# Altium footprint library IVV_IC.PcbLib: 16 footprints
Each footprint in its own frame and in the unit in brackets; x right, y up, seen from the top. Pads: shape width x height; smd on the part's side, far side on the other; paste and mask are expansions set on the pad; w line width, h text height; cw(c..) or ccw(c..) is an arc to the next point about the centre after c.
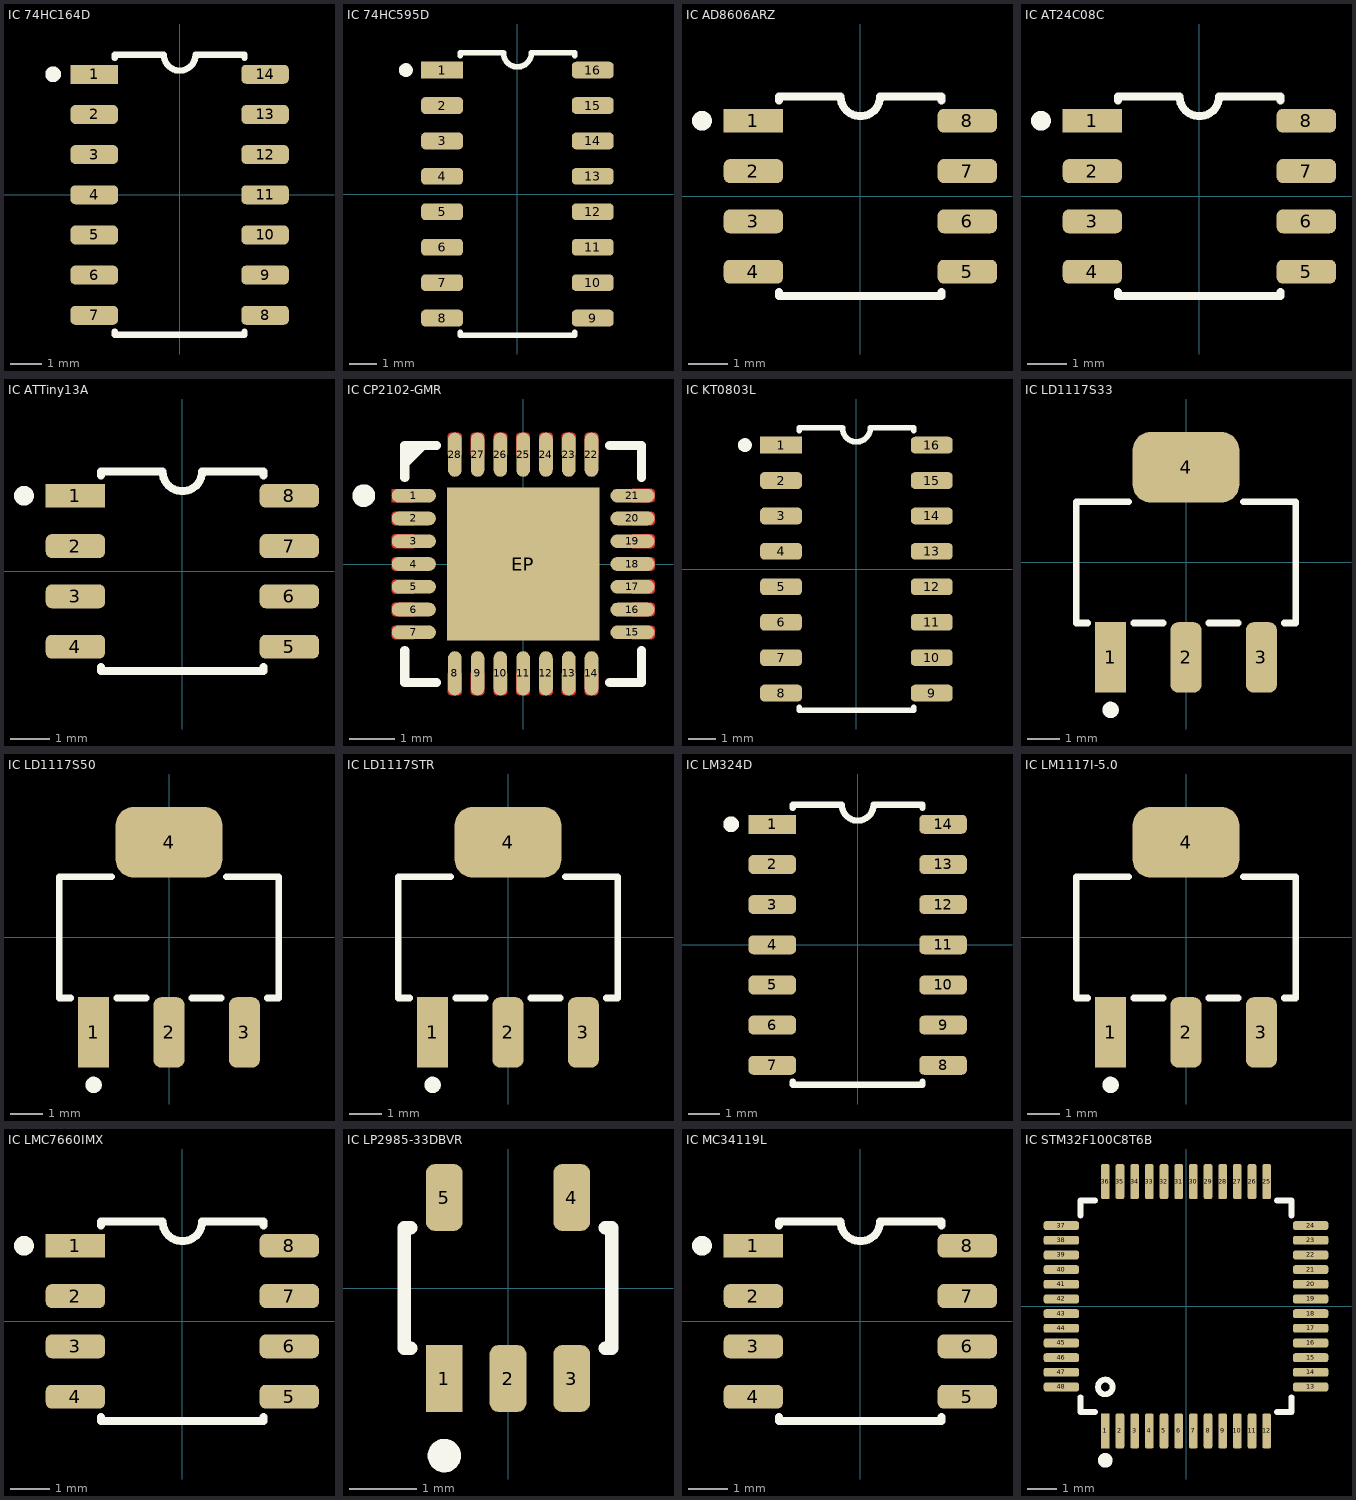
[diagram p0: the footprints below, top view; thin cyan lines are the x and y axes]

## IC 74HC164D [mm]
pads (14):
  rect 1.5x0.6 smd mask+0.075: 1(-2.7,3.81)
  rrect50% 1.5x0.6 smd mask+0.075: 2(-2.7,2.54) 3(-2.7,1.27) 4(-2.7,0) 5(-2.7,-1.27) 6(-2.7,-2.54) 7(-2.7,-3.81) 8(2.7,-3.81) 9(2.7,-2.54) 10(2.7,-1.27) 11(2.7,0) 12(2.7,1.27) 13(2.7,2.54) 14(2.7,3.81)
Top Overlay:
  circle w0.25: c-4,3.81 r0.125
  lines w0.2: -2.05,-4.325 -2.05,-4.425 2.05,-4.425 2.05,-4.325 ; -2.05,4.325 -2.05,4.425 -0.5,4.425 ccw(c0,4.425) 0.5,4.425 2.05,4.425 2.05,4.325
3D body "MS-012AB.stp": height 1.75, standoff 0, extent -3.1,-4.385 3.1,4.365

## IC 74HC595D [mm]
pads (16):
  rect 1.5x0.6 smd mask+0.075: 1(-2.7,4.445)
  rrect50% 1.5x0.6 smd mask+0.075: 2(-2.7,3.175) 3(-2.7,1.905) 4(-2.7,0.635) 5(-2.7,-0.635) 6(-2.7,-1.905) 7(-2.7,-3.175) 8(-2.7,-4.445) 9(2.7,-4.445) 10(2.7,-3.175) 11(2.7,-1.905) 12(2.7,-0.635) 13(2.7,0.635) 14(2.7,1.905) 15(2.7,3.175) 16(2.7,4.445)
Top Overlay:
  circle w0.25: c-4,4.445 r0.125
  lines w0.2: -2.05,-4.96 -2.05,-5.06 2.05,-5.06 2.05,-4.96 ; -2.05,4.96 -2.05,5.06 -0.5,5.06 ccw(c0,5.06) 0.5,5.06 2.05,5.06 2.05,4.96
3D body "MS-012AC.stp": height 1.75, standoff 0, extent -3.1,-5 3.1,5

## IC AD8606ARZ [mm]
pads (8):
  rect 1.5x0.6 smd mask+0.075: 1(-2.7,1.905)
  rrect50% 1.5x0.6 smd mask+0.075: 2(-2.7,0.635) 3(-2.7,-0.635) 4(-2.7,-1.905) 5(2.7,-1.905) 6(2.7,-0.635) 7(2.7,0.635) 8(2.7,1.905)
Top Overlay:
  circle w0.25: c-4,1.905 r0.125
  lines w0.2: -2.05,-2.42 -2.05,-2.52 2.05,-2.52 2.05,-2.42 ; -2.05,2.42 -2.05,2.52 -0.5,2.52 ccw(c0,2.52) 0.5,2.52 2.05,2.52 2.05,2.42
3D body "MS-012AA.stp": height 1.75, standoff 0, extent -3.1,-2.5 3.1,2.5

## IC AT24C08C [mm]
pads (8):
  rect 1.5x0.6 smd mask+0.075: 1(-2.7,1.905)
  rrect50% 1.5x0.6 smd mask+0.075: 2(-2.7,0.635) 3(-2.7,-0.635) 4(-2.7,-1.905) 5(2.7,-1.905) 6(2.7,-0.635) 7(2.7,0.635) 8(2.7,1.905)
Top Overlay:
  circle w0.25: c-4,1.905 r0.125
  lines w0.2: -2.05,-2.42 -2.05,-2.52 2.05,-2.52 2.05,-2.42 ; -2.05,2.42 -2.05,2.52 -0.5,2.52 ccw(c0,2.52) 0.5,2.52 2.05,2.52 2.05,2.42
3D body "MS-012AA.stp": height 1.75, standoff 0, extent -3.1,-2.5 3.1,2.5

## IC ATTiny13A [mm]
pads (8):
  rect 1.5x0.6 smd mask+0.075: 1(-2.7,1.905)
  rrect50% 1.5x0.6 smd mask+0.075: 2(-2.7,0.635) 3(-2.7,-0.635) 4(-2.7,-1.905) 5(2.7,-1.905) 6(2.7,-0.635) 7(2.7,0.635) 8(2.7,1.905)
Top Overlay:
  circle w0.25: c-4,1.905 r0.125
  lines w0.2: -2.05,-2.42 -2.05,-2.52 2.05,-2.52 2.05,-2.42 ; -2.05,2.42 -2.05,2.52 -0.5,2.52 ccw(c0,2.52) 0.5,2.52 2.05,2.52 2.05,2.42
3D body "MS-012AA.stp": height 1.75, standoff 0, extent -3.1,-2.5 3.1,2.5

## IC CP2102-GMR [mm]
pads (29):
  oval 0.97x0.3 smd mask+0.075: 1(-2.4,1.5) 2(-2.4,1) 3(-2.4,0.5) 4(-2.4,0) 5(-2.4,-0.5) 6(-2.4,-1) 7(-2.4,-1.5) 15(2.4,-1.5) 16(2.4,-1) 17(2.4,-0.5) 18(2.4,0) 19(2.4,0.5) 20(2.4,1) 21(2.4,1.5)
  oval 0.3x0.97 smd mask+0.075: 8(-1.5,-2.4) 9(-1,-2.4) 10(-0.5,-2.4) 11(0,-2.4) 12(0.5,-2.4) 13(1,-2.4) 14(1.5,-2.4) 22(1.5,2.4) 23(1,2.4) 24(0.5,2.4) 25(0,2.4) 26(-0.5,2.4) 27(-1,2.4) 28(-1.5,2.4)
  rect 3.35x3.35 smd mask+0.075: EP(0,0)
Top Layer:
  rectangle: -2.885,1.35 -2.4,1.65
  region: -1.35,2.4 -1.35,2.81 -1.35,2.825 -1.361,2.852 -1.383,2.874 -1.41,2.885 -1.425,2.885 -1.575,2.885 -1.59,2.885 -1.617,2.874 -1.639,2.852 -1.65,2.825 -1.65,2.81 -1.65,2.4
  region: -0.85,2.4 -0.85,2.81 -0.85,2.825 -0.861,2.852 -0.883,2.874 -0.91,2.885 -0.925,2.885 -1.075,2.885 -1.09,2.885 -1.117,2.874 -1.139,2.852 -1.15,2.825 -1.15,2.81 -1.15,2.4
  region: -0.35,2.4 -0.35,2.81 -0.35,2.825 -0.361,2.852 -0.383,2.874 -0.41,2.885 -0.425,2.885 -0.575,2.885 -0.59,2.885 -0.617,2.874 -0.639,2.852 -0.65,2.825 -0.65,2.81 -0.65,2.4
  region: 0.15,2.4 0.15,2.81 0.15,2.825 0.139,2.852 0.117,2.874 0.09,2.885 0.075,2.885 -0.075,2.885 -0.09,2.885 -0.117,2.874 -0.139,2.852 -0.15,2.825 -0.15,2.81 -0.15,2.4
  region: 0.65,2.4 0.65,2.81 0.65,2.825 0.639,2.852 0.617,2.874 0.59,2.885 0.575,2.885 0.425,2.885 0.41,2.885 0.383,2.874 0.361,2.852 0.35,2.825 0.35,2.81 0.35,2.4
  region: 1.15,2.4 1.15,2.81 1.15,2.825 1.139,2.852 1.117,2.874 1.09,2.885 1.075,2.885 0.925,2.885 0.91,2.885 0.883,2.874 0.861,2.852 0.85,2.825 0.85,2.81 0.85,2.4
  region: 1.65,2.4 1.65,2.81 1.65,2.825 1.639,2.852 1.617,2.874 1.59,2.885 1.575,2.885 1.425,2.885 1.41,2.885 1.383,2.874 1.361,2.852 1.35,2.825 1.35,2.81 1.35,2.4
  region: 2.4,1.35 2.81,1.35 2.825,1.35 2.852,1.361 2.874,1.383 2.885,1.41 2.885,1.425 2.885,1.575 2.885,1.59 2.874,1.617 2.852,1.639 2.825,1.65 2.81,1.65 2.4,1.65
  region: 2.4,0.85 2.81,0.85 2.825,0.85 2.852,0.861 2.874,0.883 2.885,0.91 2.885,0.925 2.885,1.075 2.885,1.09 2.874,1.117 2.852,1.139 2.825,1.15 2.81,1.15 2.4,1.15
  region: 2.4,0.35 2.81,0.35 2.825,0.35 2.852,0.361 2.874,0.383 2.885,0.41 2.885,0.425 2.885,0.575 2.885,0.59 2.874,0.617 2.852,0.639 2.825,0.65 2.81,0.65 2.4,0.65
  region: 2.4,-0.15 2.81,-0.15 2.825,-0.15 2.852,-0.139 2.874,-0.117 2.885,-0.09 2.885,-0.075 2.885,0.075 2.885,0.09 2.874,0.117 2.852,0.139 2.825,0.15 2.81,0.15 2.4,0.15
  region: 2.4,-0.65 2.81,-0.65 2.825,-0.65 2.852,-0.639 2.874,-0.617 2.885,-0.59 2.885,-0.575 2.885,-0.425 2.885,-0.41 2.874,-0.383 2.852,-0.361 2.825,-0.35 2.81,-0.35 2.4,-0.35
  region: 2.4,-1.15 2.81,-1.15 2.825,-1.15 2.852,-1.139 2.874,-1.117 2.885,-1.09 2.885,-1.075 2.885,-0.925 2.885,-0.91 2.874,-0.883 2.852,-0.861 2.825,-0.85 2.81,-0.85 2.4,-0.85
  region: 2.4,-1.65 2.81,-1.65 2.825,-1.65 2.852,-1.639 2.874,-1.617 2.885,-1.59 2.885,-1.575 2.885,-1.425 2.885,-1.41 2.874,-1.383 2.852,-1.361 2.825,-1.35 2.81,-1.35 2.4,-1.35
  region: 1.35,-2.4 1.35,-2.81 1.35,-2.825 1.361,-2.852 1.383,-2.874 1.41,-2.885 1.425,-2.885 1.575,-2.885 1.59,-2.885 1.617,-2.874 1.639,-2.852 1.65,-2.825 1.65,-2.81 1.65,-2.4
  region: 0.85,-2.4 0.85,-2.81 0.85,-2.825 0.861,-2.852 0.883,-2.874 0.91,-2.885 0.925,-2.885 1.075,-2.885 1.09,-2.885 1.117,-2.874 1.139,-2.852 1.15,-2.825 1.15,-2.81 1.15,-2.4
  region: 0.35,-2.4 0.35,-2.81 0.35,-2.825 0.361,-2.852 0.383,-2.874 0.41,-2.885 0.425,-2.885 0.575,-2.885 0.59,-2.885 0.617,-2.874 0.639,-2.852 0.65,-2.825 0.65,-2.81 0.65,-2.4
  region: -0.15,-2.4 -0.15,-2.81 -0.15,-2.825 -0.139,-2.852 -0.117,-2.874 -0.09,-2.885 -0.075,-2.885 0.075,-2.885 0.09,-2.885 0.117,-2.874 0.139,-2.852 0.15,-2.825 0.15,-2.81 0.15,-2.4
  region: -0.65,-2.4 -0.65,-2.81 -0.65,-2.825 -0.639,-2.852 -0.617,-2.874 -0.59,-2.885 -0.575,-2.885 -0.425,-2.885 -0.41,-2.885 -0.383,-2.874 -0.361,-2.852 -0.35,-2.825 -0.35,-2.81 -0.35,-2.4
  region: -1.15,-2.4 -1.15,-2.81 -1.15,-2.825 -1.139,-2.852 -1.117,-2.874 -1.09,-2.885 -1.075,-2.885 -0.925,-2.885 -0.91,-2.885 -0.883,-2.874 -0.861,-2.852 -0.85,-2.825 -0.85,-2.81 -0.85,-2.4
  region: -1.65,-2.4 -1.65,-2.81 -1.65,-2.825 -1.639,-2.852 -1.617,-2.874 -1.59,-2.885 -1.575,-2.885 -1.425,-2.885 -1.41,-2.885 -1.383,-2.874 -1.361,-2.852 -1.35,-2.825 -1.35,-2.81 -1.35,-2.4
  region: -2.4,-1.35 -2.81,-1.35 -2.825,-1.35 -2.852,-1.361 -2.874,-1.383 -2.885,-1.41 -2.885,-1.425 -2.885,-1.575 -2.885,-1.59 -2.874,-1.617 -2.852,-1.639 -2.825,-1.65 -2.81,-1.65 -2.4,-1.65
  region: -2.4,-0.85 -2.81,-0.85 -2.825,-0.85 -2.852,-0.861 -2.874,-0.883 -2.885,-0.91 -2.885,-0.925 -2.885,-1.075 -2.885,-1.09 -2.874,-1.117 -2.852,-1.139 -2.825,-1.15 -2.81,-1.15 -2.4,-1.15
  region: -2.4,-0.35 -2.81,-0.35 -2.825,-0.35 -2.852,-0.361 -2.874,-0.383 -2.885,-0.41 -2.885,-0.425 -2.885,-0.575 -2.885,-0.59 -2.874,-0.617 -2.852,-0.639 -2.825,-0.65 -2.81,-0.65 -2.4,-0.65
  region: -2.4,0.15 -2.81,0.15 -2.825,0.15 -2.852,0.139 -2.874,0.117 -2.885,0.09 -2.885,0.075 -2.885,-0.075 -2.885,-0.09 -2.874,-0.117 -2.852,-0.139 -2.825,-0.15 -2.81,-0.15 -2.4,-0.15
  region: -2.4,0.65 -2.81,0.65 -2.825,0.65 -2.852,0.639 -2.874,0.617 -2.885,0.59 -2.885,0.575 -2.885,0.425 -2.885,0.41 -2.874,0.383 -2.852,0.361 -2.825,0.35 -2.81,0.35 -2.4,0.35
  region: -2.4,1.15 -2.81,1.15 -2.825,1.15 -2.852,1.139 -2.874,1.117 -2.885,1.09 -2.885,1.075 -2.885,0.925 -2.885,0.91 -2.874,0.883 -2.852,0.861 -2.825,0.85 -2.81,0.85 -2.4,0.85
Top Overlay:
  circle w0.25: c-3.5,1.5 r0.125
  region: -2.6,2.2 -2.6,2.6 -2.2,2.6
  lines w0.2: -2.6,-1.9 -2.6,-2.6 -1.9,-2.6 ; -2.6,1.9 -2.6,2.6 -1.9,2.6 ; -2.6,2.25 -2.6,2.2 -2.2,2.6 ; 1.9,-2.6 2.6,-2.6 2.6,-1.9 ; 1.9,2.6 2.6,2.6 2.6,1.9
Top Solder:
  drawing of 28 lines, arcs and shapes, not listed
3D body "QFN28.step": height 0.95, standoff 0, extent -2.6,-2.6 2.6,2.6

## IC KT0803L [mm]
pads (16):
  rect 1.5x0.6 smd mask+0.075: 1(-2.7,4.445)
  rrect50% 1.5x0.6 smd mask+0.075: 2(-2.7,3.175) 3(-2.7,1.905) 4(-2.7,0.635) 5(-2.7,-0.635) 6(-2.7,-1.905) 7(-2.7,-3.175) 8(-2.7,-4.445) 9(2.7,-4.445) 10(2.7,-3.175) 11(2.7,-1.905) 12(2.7,-0.635) 13(2.7,0.635) 14(2.7,1.905) 15(2.7,3.175) 16(2.7,4.445)
Top Overlay:
  circle w0.25: c-4,4.445 r0.125
  lines w0.2: -2.05,-4.96 -2.05,-5.06 2.05,-5.06 2.05,-4.96 ; -2.05,4.96 -2.05,5.06 -0.5,5.06 ccw(c0,5.06) 0.5,5.06 2.05,5.06 2.05,4.96
3D body "MS-012AC.stp": height 1.75, standoff 0, extent -3.1,-5 3.1,5

## IC LD1117S33 [mm]
pads (4):
  rect 0.95x2.15 smd mask+0.075: 1(-2.3,-2.9)
  rrect50% 0.95x2.15 smd mask+0.075: 2(0,-2.9) 3(2.3,-2.9)
  rrect50% 3.25x2.15 smd mask+0.075: 4(0,2.9)
Top Overlay:
  circle w0.25: c-2.3,-4.5 r0.125
  lines w0.2: -3,-1.85 -3.35,-1.85 -3.35,1.85 -1.75,1.85 ; -1.6,-1.85 -0.7,-1.85 ; 0.7,-1.85 1.6,-1.85 ; 1.75,1.85 3.35,1.85 3.35,-1.85 3,-1.85
3D body "TO-261AA.stp": height 1.8, standoff 0, extent -3.35,-3.65 3.35,3.65

## IC LD1117S50 [mm]
pads (4):
  rect 0.95x2.15 smd mask+0.075: 1(-2.3,-2.9)
  rrect50% 0.95x2.15 smd mask+0.075: 2(0,-2.9) 3(2.3,-2.9)
  rrect50% 3.25x2.15 smd mask+0.075: 4(0,2.9)
Top Overlay:
  circle w0.25: c-2.3,-4.5 r0.125
  lines w0.2: -3,-1.85 -3.35,-1.85 -3.35,1.85 -1.75,1.85 ; -1.6,-1.85 -0.7,-1.85 ; 0.7,-1.85 1.6,-1.85 ; 1.75,1.85 3.35,1.85 3.35,-1.85 3,-1.85
3D body "TO-261AA.stp": height 1.8, standoff 0, extent -3.35,-3.65 3.35,3.65

## IC LD1117STR [mm]
pads (4):
  rect 0.95x2.15 smd mask+0.075: 1(-2.3,-2.9)
  rrect50% 0.95x2.15 smd mask+0.075: 2(0,-2.9) 3(2.3,-2.9)
  rrect50% 3.25x2.15 smd mask+0.075: 4(0,2.9)
Top Overlay:
  circle w0.25: c-2.3,-4.5 r0.125
  lines w0.2: -3,-1.85 -3.35,-1.85 -3.35,1.85 -1.75,1.85 ; -1.6,-1.85 -0.7,-1.85 ; 0.7,-1.85 1.6,-1.85 ; 1.75,1.85 3.35,1.85 3.35,-1.85 3,-1.85
3D body "TO-261AA.stp": height 1.8, standoff 0, extent -3.35,-3.65 3.35,3.65

## IC LM324D [mm]
pads (14):
  rect 1.5x0.6 smd mask+0.075: 1(-2.7,3.81)
  rrect50% 1.5x0.6 smd mask+0.075: 2(-2.7,2.54) 3(-2.7,1.27) 4(-2.7,0) 5(-2.7,-1.27) 6(-2.7,-2.54) 7(-2.7,-3.81) 8(2.7,-3.81) 9(2.7,-2.54) 10(2.7,-1.27) 11(2.7,0) 12(2.7,1.27) 13(2.7,2.54) 14(2.7,3.81)
Top Overlay:
  circle w0.25: c-4,3.81 r0.125
  lines w0.2: -2.05,-4.325 -2.05,-4.425 2.05,-4.425 2.05,-4.325 ; -2.05,4.325 -2.05,4.425 -0.5,4.425 ccw(c0,4.425) 0.5,4.425 2.05,4.425 2.05,4.325
3D body "MS-012AB.stp": height 1.75, standoff 0, extent -3.1,-4.385 3.1,4.365

## IC LM1117I-5.0 [mm]
pads (4):
  rect 0.95x2.15 smd mask+0.075: 1(-2.3,-2.9)
  rrect50% 0.95x2.15 smd mask+0.075: 2(0,-2.9) 3(2.3,-2.9)
  rrect50% 3.25x2.15 smd mask+0.075: 4(0,2.9)
Top Overlay:
  circle w0.25: c-2.3,-4.5 r0.125
  lines w0.2: -3,-1.85 -3.35,-1.85 -3.35,1.85 -1.75,1.85 ; -1.6,-1.85 -0.7,-1.85 ; 0.7,-1.85 1.6,-1.85 ; 1.75,1.85 3.35,1.85 3.35,-1.85 3,-1.85
3D body "TO-261AA.stp": height 1.8, standoff 0, extent -3.35,-3.65 3.35,3.65

## IC LMC7660IMX [mm]
pads (8):
  rect 1.5x0.6 smd mask+0.075: 1(-2.7,1.905)
  rrect50% 1.5x0.6 smd mask+0.075: 2(-2.7,0.635) 3(-2.7,-0.635) 4(-2.7,-1.905) 5(2.7,-1.905) 6(2.7,-0.635) 7(2.7,0.635) 8(2.7,1.905)
Top Overlay:
  circle w0.25: c-4,1.905 r0.125
  lines w0.2: -2.05,-2.42 -2.05,-2.52 2.05,-2.52 2.05,-2.42 ; -2.05,2.42 -2.05,2.52 -0.5,2.52 ccw(c0,2.52) 0.5,2.52 2.05,2.52 2.05,2.42
3D body "MS-012AA.stp": height 1.75, standoff 0, extent -3.1,-2.5 3.1,2.5

## IC LP2985-33DBVR [mm]
pads (5):
  rect 0.55x1 smd mask+0.075: 1(-0.95,-1.35)
  rrect50% 0.55x1 smd mask+0.075: 2(0,-1.35) 3(0.95,-1.35) 4(0.95,1.35) 5(-0.95,1.35)
Top Overlay:
  circle w0.25: c-0.95,-2.5 r0.125
  lines w0.2: -1.45,-0.9 -1.55,-0.9 -1.55,0.9 -1.45,0.9 ; 1.45,-0.9 1.55,-0.9 1.55,0.9 1.45,0.9
3D body "SC-74A.stp": height 1.45, standoff 0, extent -1.55,-1.6 1.55,1.6

## IC MC34119L [mm]
pads (8):
  rect 1.5x0.6 smd mask+0.075: 1(-2.7,1.905)
  rrect50% 1.5x0.6 smd mask+0.075: 2(-2.7,0.635) 3(-2.7,-0.635) 4(-2.7,-1.905) 5(2.7,-1.905) 6(2.7,-0.635) 7(2.7,0.635) 8(2.7,1.905)
Top Overlay:
  circle w0.25: c-4,1.905 r0.125
  lines w0.2: -2.05,-2.42 -2.05,-2.52 2.05,-2.52 2.05,-2.42 ; -2.05,2.42 -2.05,2.52 -0.5,2.52 ccw(c0,2.52) 0.5,2.52 2.05,2.52 2.05,2.42
3D body "MS-012AA.stp": height 1.75, standoff 0, extent -3.1,-2.5 3.1,2.5

## IC STM32F100C8T6B [mm]
pads (48):
  rect 0.3x1.2 smd mask+0.05: 1(-2.75,-4.25)
  rrect50% 0.3x1.2 smd mask+0.05: 2(-2.25,-4.25) 3(-1.75,-4.25) 4(-1.25,-4.25) 5(-0.75,-4.25) 6(-0.25,-4.25) 7(0.25,-4.25) 8(0.75,-4.25) 9(1.25,-4.25) 10(1.75,-4.25) 11(2.25,-4.25) 12(2.75,-4.25) 25(2.75,4.25) 26(2.25,4.25) 27(1.75,4.25) 28(1.25,4.25) 29(0.75,4.25) 30(0.25,4.25) 31(-0.25,4.25) 32(-0.75,4.25) 33(-1.25,4.25) 34(-1.75,4.25) 35(-2.25,4.25) 36(-2.75,4.25)
  rrect50% 1.2x0.3 smd mask+0.05: 13(4.25,-2.75) 14(4.25,-2.25) 15(4.25,-1.75) 16(4.25,-1.25) 17(4.25,-0.75) 18(4.25,-0.25) 19(4.25,0.25) 20(4.25,0.75) 21(4.25,1.25) 22(4.25,1.75) 23(4.25,2.25) 24(4.25,2.75) 37(-4.25,2.75) 38(-4.25,2.25) 39(-4.25,1.75) 40(-4.25,1.25) 41(-4.25,0.75) 42(-4.25,0.25) 43(-4.25,-0.25) 44(-4.25,-0.75) 45(-4.25,-1.25) 46(-4.25,-1.75) 47(-4.25,-2.25) 48(-4.25,-2.75)
Top Overlay:
  circle w0.2: c-2.75,-2.75 r0.25
  circle w0.25: c-2.75,-5.25 r0.125
  lines w0.2: -3.6,-3.1 -3.6,-3.6 -3.1,-3.6 ; -3.6,3.1 -3.6,3.6 -3.1,3.6 ; 3.1,-3.6 3.6,-3.6 3.6,-3.1 ; 3.1,3.6 3.6,3.6 3.6,3.1
3D body "MS-026BBC.stp": height 1.6, standoff 0, extent -4.6,-4.6 4.6,4.6